# Altium schematic symbol library RES,10m,1%,1W,1206.Schlib: 1 symbol
Pins are listed as number, name and electrical type; pins without a type are passive.

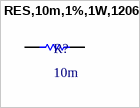
[diagram p0: symbol RES,10m,1%,1W,1206]

## RES,10m,1%,1W,1206
designator R?, comment 10m
RES 0.01 OHM 1% 1W 1206
pins: 1, 2